# EAGLE library part FC_1.3 (library pedelec)
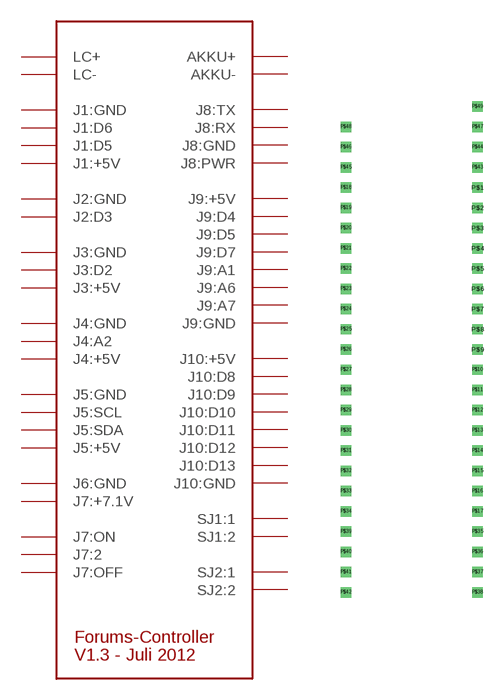
[diagram p1: symbol with the pads of FC_DUMMY; footprint FC_DUMMY]

Designator prefix -

## FC_1.3  [FC_DUMMY]
P$1  J1:+5V  pwr
P$2  J1:D5  out
P$3  J1:D6  out
P$4  J1:GND  pwr
P$5  J2:D3  in
P$6  J2:GND  pwr
P$7  J3:+5V  pwr
P$8  J3:D2  in
P$9  J3:GND  pwr
P$10  J4:+5V  pwr
P$11  J4:A2  in
P$12  J4:GND  pwr
P$13  J5:+5V  pwr
P$14  J5:GND  pwr
P$15  J5:SCL  out
P$16  J5:SDA  out
P$17  J6:GND  pwr
P$18  J7:2  pwr
P$19  J7:+7.1V  pwr
P$20  J7:OFF  in
P$21  J7:ON  in
P$22  J8:GND  pwr
P$23  J8:PWR  out
P$24  J8:RX
P$25  J8:TX
P$26  J9:+5V  pwr
P$27  J9:A1  in
P$28  J9:A6  in
P$29  J9:A7  in
P$30  J9:D4  in
P$31  J9:D5  in
P$32  J9:D7  in
P$33  J9:GND  pwr
P$34  J10:+5V  pwr
P$35  J10:D8  out
P$36  J10:D9  out
P$37  J10:D10  out
P$38  J10:D11  out
P$39  J10:D12  out
P$40  J10:D13  out
P$41  J10:GND  in
P$42  SJ1:1
P$43  SJ1:2
P$44  SJ2:1
P$45  SJ2:2
P$46  AKKU+  in
P$47  AKKU-  in
P$48  LC+  out
P$49  LC-  out

## Footprint FC_DUMMY (pad centres in mm)
drill 0.8 square: P$1 8.89,19.05; P$2 8.89,16.51; P$3 8.89,13.97; P$4 8.89,11.43; P$5 8.89,8.89; P$6 8.89,6.35; P$7 8.89,3.81; P$8 8.89,1.27; P$9 8.89,-1.27; P$10 8.89,-3.81; P$11 8.89,-6.35; P$12 8.89,-8.89; P$13 8.89,-11.43; P$14 8.89,-13.97; P$15 8.89,-16.51; P$16 8.89,-19.05; P$17 8.89,-21.59; P$18 -7.62,19.05; P$19 -7.62,16.51; P$20 -7.62,13.97; P$21 -7.62,11.43; P$22 -7.62,8.89; P$23 -7.62,6.35; P$24 -7.62,3.81; P$25 -7.62,1.27; P$26 -7.62,-1.27; P$27 -7.62,-3.81; P$28 -7.62,-6.35; P$29 -7.62,-8.89; P$30 -7.62,-11.43; P$31 -7.62,-13.97; P$32 -7.62,-16.51; P$33 -7.62,-19.05; P$34 -7.62,-21.59; P$35 8.89,-24.13; P$36 8.89,-26.67; P$37 8.89,-29.21; P$38 8.89,-31.75; P$39 -7.62,-24.13; P$40 -7.62,-26.67; P$41 -7.62,-29.21; P$42 -7.62,-31.75; P$43 8.89,21.59; P$44 8.89,24.13; P$45 -7.62,21.59; P$46 -7.62,24.13; P$47 8.89,26.67; P$48 -7.62,26.67; P$49 8.89,29.21